# EAGLE library part OPTOISOLATOR_LOGIC (library everykey)
Optocoupler with logic output, e.g. 6S137
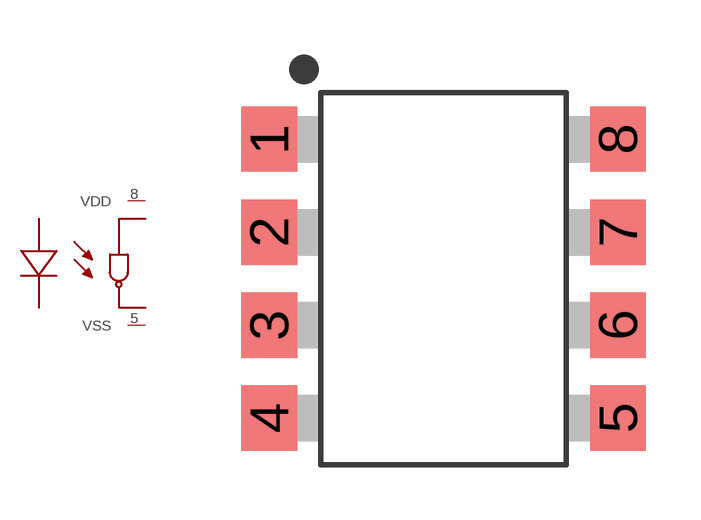
[diagram p79: symbol with the pads of SMD8-300MIL; footprint SMD8-300MIL]

Designator prefix -

## OPTOISOLATOR_LOGIC-SMD8  [SMD8-300MIL]
2  LED_A  pas
3  LED_K  pas
5  VSS  pwr
6  OUT  pas
7  EN  pas
8  VDD  pwr

## Footprint SMD8-300MIL (pad centres in mm)
2.54mm pitch SMD package, 8 pins, 7.62mm width (DIP equivalent)
smd 1.52 x 1.78: 1 -4.76,3.81; 2 -4.76,1.27; 3 -4.76,-1.27; 4 -4.76,-3.81; 5 4.76,-3.81; 6 4.76,-1.27; 7 4.76,1.27; 8 4.76,3.81